# Altium schematic symbol library LL4148.SchLib: 1 symbol
Pins are listed as number, name and electrical type; pins without a type are passive.

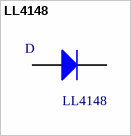
[diagram p0: symbol LL4148]

## LL4148
designator D  value LL4148  (hidden comment: *)
Manufacturer: FAIRCHILD; Forward Voltage: 1V; Forward Current: 200mA; Manufacturer Code: LL4148; Unit Price: 0,046 €; Farnell Code: 2356382
footprint SOD80C
pins: 1 A, 2 K